# Altium footprint library 0603贴片封装.PcbLib: 1 footprints
Each footprint in its own frame and in the unit in brackets; x right, y up, seen from the top. Pads: shape width x height; smd on the part's side, far side on the other; paste and mask are expansions set on the pad; w line width, h text height; cw(c..) or ccw(c..) is an arc to the next point about the centre after c.
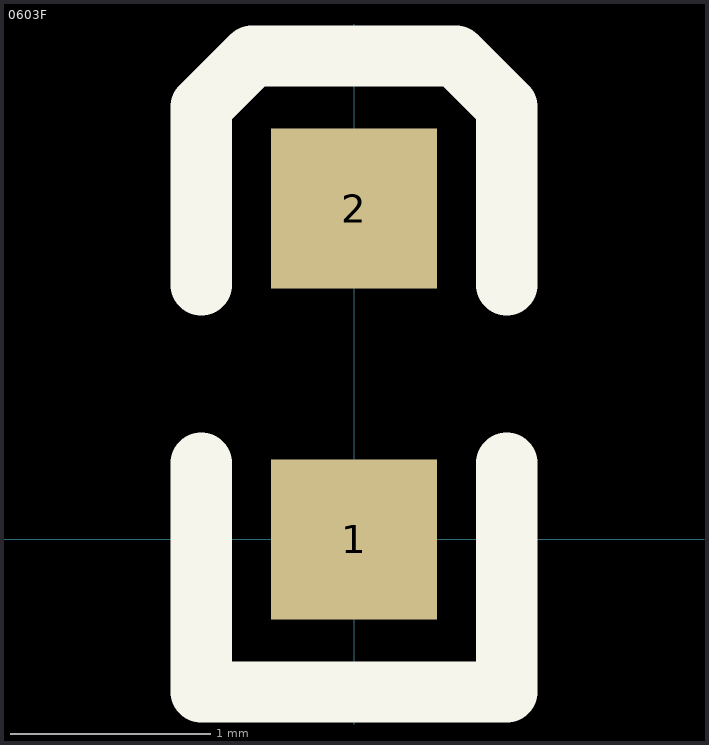
[diagram p0: the footprint, top view; thin cyan lines are the x and y axes]

## 0603F [mm]
pads (2):
  rect 0.83x0.8 smd: 1(0,0) 2(0,1.651)
Top Overlay:
  lines w0.305: -0.762,0.381 -0.762,-0.762 0.762,-0.762 0.762,0.381 ; -0.762,1.27 -0.762,2.159 -0.508,2.413 0.508,2.413 0.762,2.159 0.762,1.27